# EAGLE library part STM32F103X8/B (library arm)
Medium-density performance line ARM-based 32-bit MCU with 64 or 128 KB Flash, USB, CAN, 7 timers, 2 ADCs, 9 communication interfaces
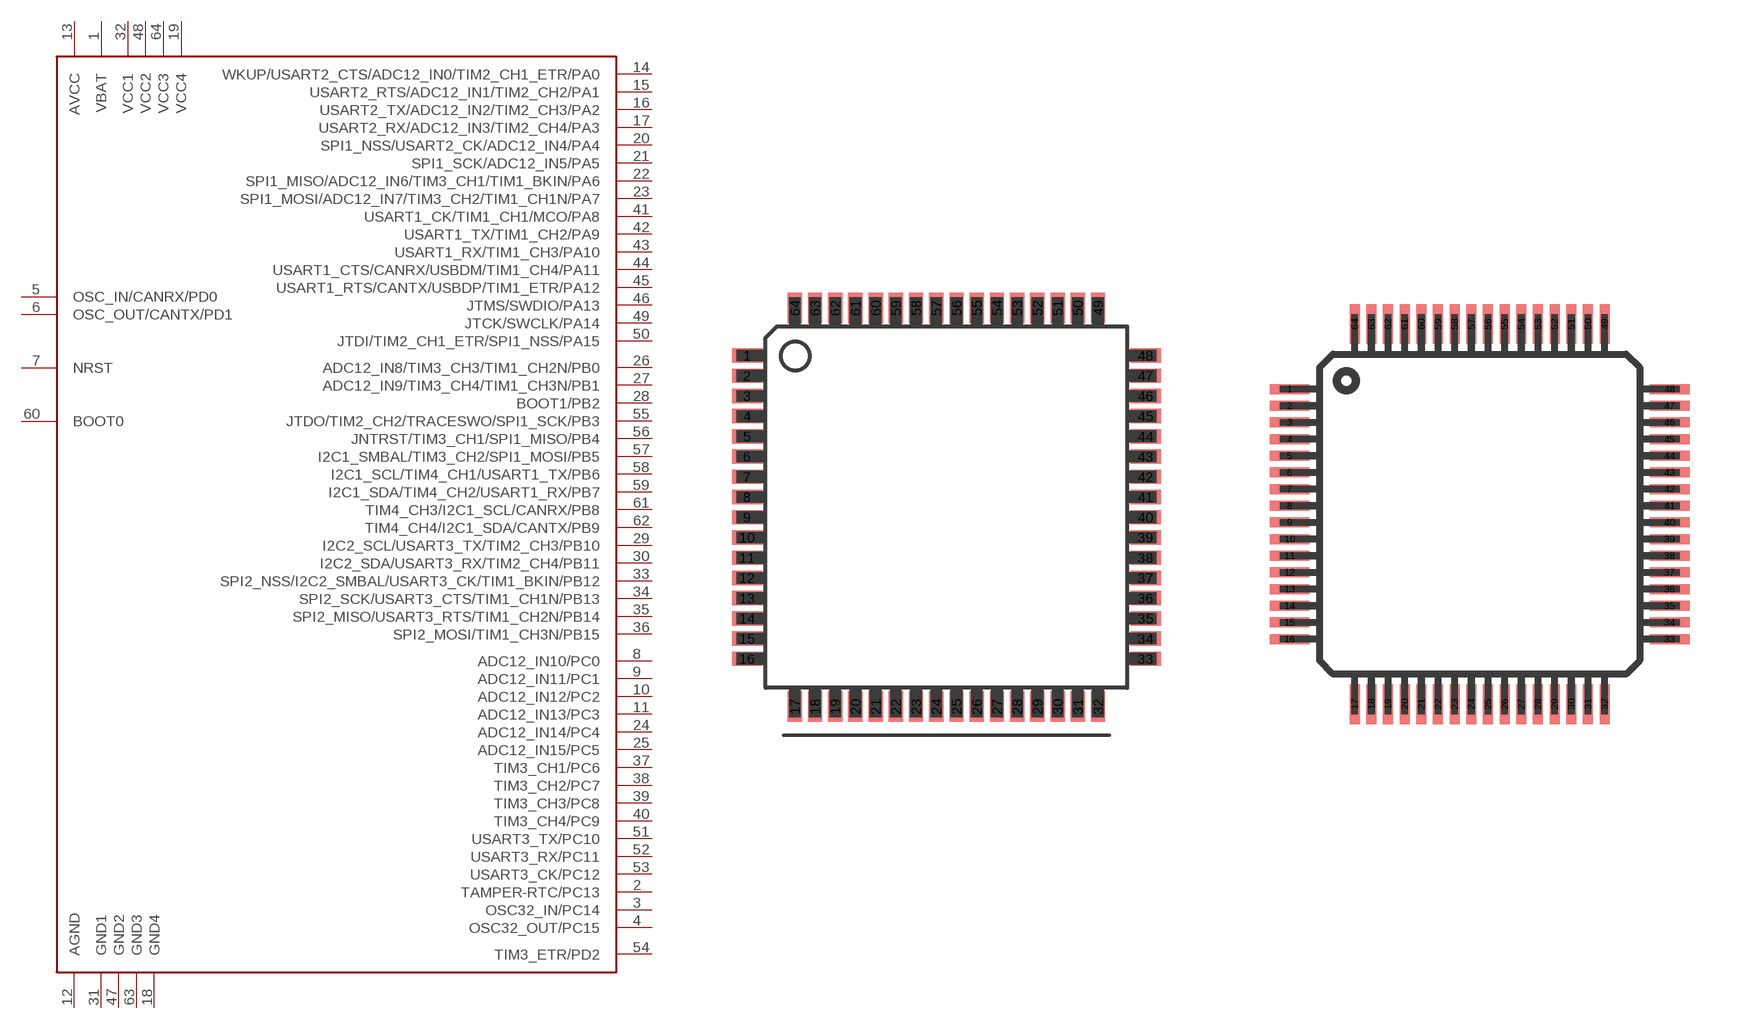
[diagram p0: symbol with the pads of LQFP64; footprints LQFP64, TQFP64]

Designator prefix -

## STM32F103X8/BLQFP  [LQFP64]
1  VBAT
2  TAMPER-RTC/PC13
3  OSC32_IN/PC14
4  OSC32_OUT/PC15
5  OSC_IN/CANRX/PD0
6  OSC_OUT/CANTX/PD1
7  NRST
8  ADC12_IN10/PC0
9  ADC12_IN11/PC1
10  ADC12_IN12/PC2
11  ADC12_IN13/PC3
12  AGND
13  AVCC
14  WKUP/USART2_CTS/ADC12_IN0/TIM2_CH1_ETR/PA0
15  USART2_RTS/ADC12_IN1/TIM2_CH2/PA1
16  USART2_TX/ADC12_IN2/TIM2_CH3/PA2
17  USART2_RX/ADC12_IN3/TIM2_CH4/PA3
18  GND4
19  VCC4
20  SPI1_NSS/USART2_CK/ADC12_IN4/PA4
21  SPI1_SCK/ADC12_IN5/PA5
22  SPI1_MISO/ADC12_IN6/TIM3_CH1/TIM1_BKIN/PA6
23  SPI1_MOSI/ADC12_IN7/TIM3_CH2/TIM1_CH1N/PA7
24  ADC12_IN14/PC4
25  ADC12_IN15/PC5
26  ADC12_IN8/TIM3_CH3/TIM1_CH2N/PB0
27  ADC12_IN9/TIM3_CH4/TIM1_CH3N/PB1
28  BOOT1/PB2
29  I2C2_SCL/USART3_TX/TIM2_CH3/PB10
30  I2C2_SDA/USART3_RX/TIM2_CH4/PB11
31  GND1
32  VCC1
33  SPI2_NSS/I2C2_SMBAL/USART3_CK/TIM1_BKIN/PB12
34  SPI2_SCK/USART3_CTS/TIM1_CH1N/PB13
35  SPI2_MISO/USART3_RTS/TIM1_CH2N/PB14
36  SPI2_MOSI/TIM1_CH3N/PB15
37  TIM3_CH1/PC6
38  TIM3_CH2/PC7
39  TIM3_CH3/PC8
40  TIM3_CH4/PC9
41  USART1_CK/TIM1_CH1/MCO/PA8
42  USART1_TX/TIM1_CH2/PA9
43  USART1_RX/TIM1_CH3/PA10
44  USART1_CTS/CANRX/USBDM/TIM1_CH4/PA11
45  USART1_RTS/CANTX/USBDP/TIM1_ETR/PA12
46  JTMS/SWDIO/PA13
47  GND2
48  VCC2
49  JTCK/SWCLK/PA14
50  JTDI/TIM2_CH1_ETR/SPI1_NSS/PA15
51  USART3_TX/PC10
52  USART3_RX/PC11
53  USART3_CK/PC12
54  TIM3_ETR/PD2
55  JTDO/TIM2_CH2/TRACESWO/SPI1_SCK/PB3
56  JNTRST/TIM3_CH1/SPI1_MISO/PB4
57  I2C1_SMBAL/TIM3_CH2/SPI1_MOSI/PB5
58  I2C1_SCL/TIM4_CH1/USART1_TX/PB6
59  I2C1_SDA/TIM4_CH2/USART1_RX/PB7
60  BOOT0
61  TIM4_CH3/I2C1_SCL/CANRX/PB8
62  TIM4_CH4/I2C1_SDA/CANTX/PB9
63  GND3
64  VCC3

## STM32F103X8/BTQFP  [TQFP64]
Pads as for LQFP64

## Footprint LQFP64 (pad centres in mm)
Low-profile Quad Flat Pack
smd 1.194 x 0.559: 1 -7.76,5.905; 2 -7.76,5.118; 3 -7.76,4.331; 4 -7.76,3.543; 5 -7.76,2.756; 6 -7.76,1.968; 7 -7.76,1.181; 8 -7.76,0.394; 9 -7.76,-0.394; 10 -7.76,-1.181; 11 -7.76,-1.968; 12 -7.76,-2.756; 13 -7.76,-3.543; 14 -7.76,-4.331; 15 -7.76,-5.118; 16 -7.76,-5.905; 33 7.76,-5.905; 34 7.76,-5.118; 35 7.76,-4.331; 36 7.76,-3.543; 37 7.76,-2.756; 38 7.76,-1.968; 39 7.76,-1.181; 40 7.76,-0.394; 41 7.76,0.394; 42 7.76,1.181; 43 7.76,1.968; 44 7.76,2.756; 45 7.76,3.543; 46 7.76,4.331; 47 7.76,5.118; 48 7.76,5.905
smd 0.559 x 1.194: 17 -5.905,-7.76; 18 -5.118,-7.76; 19 -4.331,-7.76; 20 -3.543,-7.76; 21 -2.756,-7.76; 22 -1.968,-7.76; 23 -1.181,-7.76; 24 -0.394,-7.76; 25 0.394,-7.76; 26 1.181,-7.76; 27 1.968,-7.76; 28 2.756,-7.76; 29 3.543,-7.76; 30 4.331,-7.76; 31 5.118,-7.76; 32 5.905,-7.76; 49 5.905,7.76; 50 5.118,7.76; 51 4.331,7.76; 52 3.543,7.76; 53 2.756,7.76; 54 1.968,7.76; 55 1.181,7.76; 56 0.394,7.76; 57 -0.394,7.76; 58 -1.181,7.76; 59 -1.968,7.76; 60 -2.756,7.76; 61 -3.543,7.76; 62 -4.331,7.76; 63 -5.118,7.76; 64 -5.905,7.76

## Footprint TQFP64 (pad centres in mm)
smd 1.2 x 0.3: 1 -5.7,3.75; 2 -5.7,3.25; 3 -5.7,2.75; 4 -5.7,2.25; 5 -5.7,1.75; 6 -5.7,1.25; 7 -5.7,0.75; 8 -5.7,0.25; 9 -5.7,-0.25; 10 -5.7,-0.75; 11 -5.7,-1.25; 12 -5.7,-1.75; 13 -5.7,-2.25; 14 -5.7,-2.75; 15 -5.7,-3.25; 16 -5.7,-3.75; 33 5.7,-3.75; 34 5.7,-3.25; 35 5.7,-2.75; 36 5.7,-2.25; 37 5.7,-1.75; 38 5.7,-1.25; 39 5.7,-0.75; 40 5.7,-0.25; 41 5.7,0.25; 42 5.7,0.75; 43 5.7,1.25; 44 5.7,1.75; 45 5.7,2.25; 46 5.7,2.75; 47 5.7,3.25; 48 5.7,3.75
smd 0.3 x 1.2: 17 -3.75,-5.7; 18 -3.25,-5.7; 19 -2.75,-5.7; 20 -2.25,-5.7; 21 -1.75,-5.7; 22 -1.25,-5.7; 23 -0.75,-5.7; 24 -0.25,-5.7; 25 0.25,-5.7; 26 0.75,-5.7; 27 1.25,-5.7; 28 1.75,-5.7; 29 2.25,-5.7; 30 2.75,-5.7; 31 3.25,-5.7; 32 3.75,-5.7; 49 3.75,5.7; 50 3.25,5.7; 51 2.75,5.7; 52 2.25,5.7; 53 1.75,5.7; 54 1.25,5.7; 55 0.75,5.7; 56 0.25,5.7; 57 -0.25,5.7; 58 -0.75,5.7; 59 -1.25,5.7; 60 -1.75,5.7; 61 -2.25,5.7; 62 -2.75,5.7; 63 -3.25,5.7; 64 -3.75,5.7